# EAGLE library part MC100EP139DTG (library on-semiconductor-01)
Clock Generation Chip
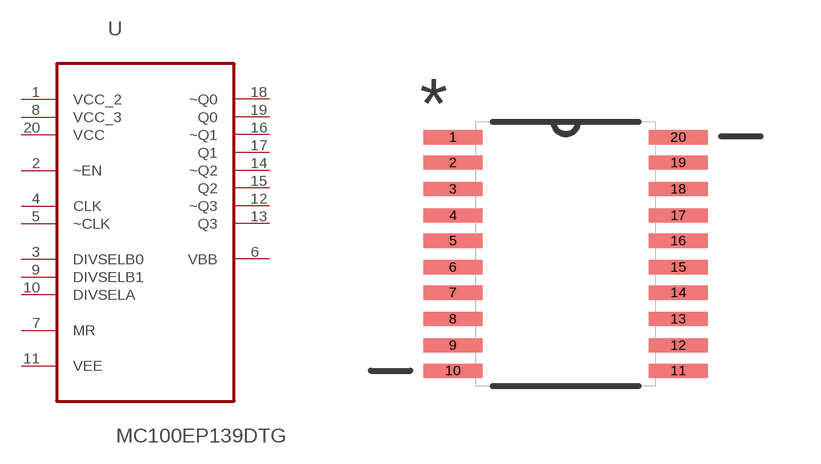
[diagram p101: symbol with the pads of SOP65P640X120-20N; footprint SOP65P640X120-20N]

Designator prefix U

## MC100EP139DTG (MPN: MC100EP139DTG; OC_FARNELL: 1126230; OC_NEWARK: 42K0393; PACKAGE: TSSOP-20; SUPPLIER: ON SEMICONDUCTOR)  [SOP65P640X120-20N]
1  VCC_2  pwr
2  ~EN  in
3  DIVSELB0  in
4  CLK  in
5  ~CLK  in
6  VBB  out
7  MR  in
8  VCC_3  pwr
9  DIVSELB1  in
10  DIVSELA  in
11  VEE  pwr
12  ~Q3  out
13  Q3  out
14  ~Q2  out
15  Q2  out
16  ~Q1  out
17  Q1  out
18  ~Q0  out
19  Q0  out
20  VCC  pwr

## Footprint SOP65P640X120-20N (pad centres in mm)
smd 1.473 x 0.356: 1 -2.819,2.921; 2 -2.819,2.286; 3 -2.819,1.626; 4 -2.819,0.965; 5 -2.819,0.33; 6 -2.819,-0.33; 7 -2.819,-0.965; 8 -2.819,-1.626; 9 -2.819,-2.286; 10 -2.819,-2.921; 11 2.819,-2.921; 12 2.819,-2.286; 13 2.819,-1.626; 14 2.819,-0.965; 15 2.819,-0.33; 16 2.819,0.33; 17 2.819,0.965; 18 2.819,1.626; 19 2.819,2.286; 20 2.819,2.921